# Altium footprint library Embedded.PcbLib: 8 footprints (part 1 of 3)
Each footprint in its own frame and in the unit in brackets; x right, y up, seen from the top. Pads: shape width x height; smd on the part's side, far side on the other; paste and mask are expansions set on the pad; w line width, h text height; cw(c..) or ccw(c..) is an arc to the next point about the centre after c.
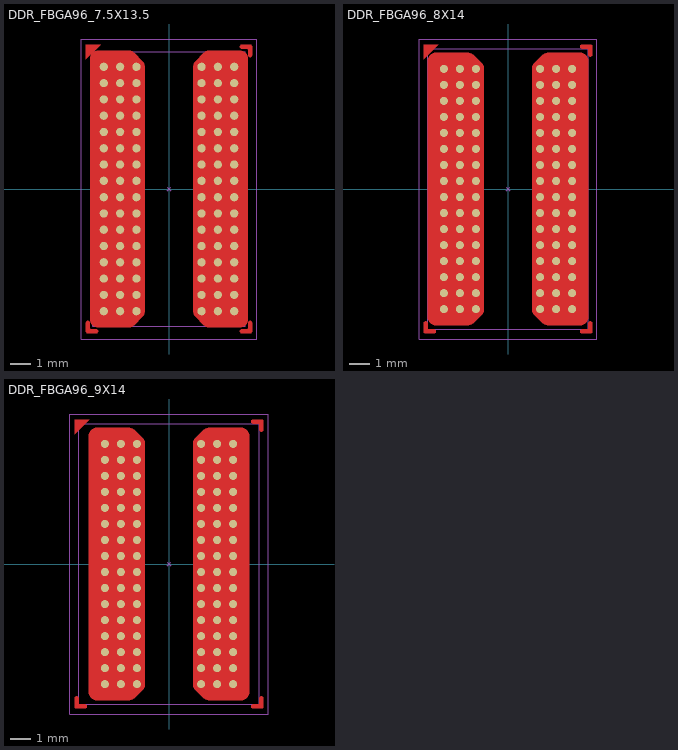
[diagram p0: the footprints below, top view; thin cyan lines are the x and y axes]

## DDR_FBGA96_7.5X13.5 [mil] "DDR_7.5X13.5"
height 43.31
pads (96):
  round 16 smd mask+1.5: A1(-125.98,236.22) A2(-94.49,236.22) A3(-62.99,236.22) A7(62.99,236.22) A8(94.49,236.22) A9(125.98,236.22) B1(-125.98,204.72) B2(-94.49,204.72) B3(-62.99,204.72) B7(62.99,204.72) B8(94.49,204.72) B9(125.98,204.72) C1(-125.98,173.23) C2(-94.49,173.23) C3(-62.99,173.23) C7(62.99,173.23) C8(94.49,173.23) C9(125.98,173.23) D1(-125.98,141.73) D2(-94.49,141.73) D3(-62.99,141.73) D7(62.99,141.73) D8(94.49,141.73) D9(125.98,141.73) E1(-125.98,110.24) E2(-94.49,110.24) E3(-62.99,110.24) E7(62.99,110.24) E8(94.49,110.24) E9(125.98,110.24) F1(-125.98,78.74) F2(-94.49,78.74) F3(-62.99,78.74) F7(62.99,78.74) F8(94.49,78.74) F9(125.98,78.74) G1(-125.98,47.24) G2(-94.49,47.24) G3(-62.99,47.24) G7(62.99,47.24) G8(94.49,47.24) G9(125.98,47.24) H1(-125.98,15.75) H2(-94.49,15.75) H3(-62.99,15.75) H7(62.99,15.75) H8(94.49,15.75) H9(125.98,15.75) J1(-125.98,-15.75) J2(-94.49,-15.75) J3(-62.99,-15.75) J7(62.99,-15.75) J8(94.49,-15.75) J9(125.98,-15.75) K1(-125.98,-47.24) K2(-94.49,-47.24) K3(-62.99,-47.24) K7(62.99,-47.24) K8(94.49,-47.24) K9(125.98,-47.24) L1(-125.98,-78.74) L2(-94.49,-78.74) L3(-62.99,-78.74) L7(62.99,-78.74) L8(94.49,-78.74) L9(125.98,-78.74) M1(-125.98,-110.24) M2(-94.49,-110.24) M3(-62.99,-110.24) M7(62.99,-110.24) M8(94.49,-110.24) M9(125.98,-110.24) N1(-125.98,-141.73) N2(-94.49,-141.73) N3(-62.99,-141.73) N7(62.99,-141.73) N8(94.49,-141.73) N9(125.98,-141.73) P1(-125.98,-173.23) P2(-94.49,-173.23) P3(-62.99,-173.23) P7(62.99,-173.23) P8(94.49,-173.23) P9(125.98,-173.23) R1(-125.98,-204.72) R2(-94.49,-204.72) R3(-62.99,-204.72) R7(62.99,-204.72) R8(94.49,-204.72) R9(125.98,-204.72) T1(-125.98,-236.22) T2(-94.49,-236.22) T3(-62.99,-236.22) T7(62.99,-236.22) T8(94.49,-236.22) T9(125.98,-236.22)
Top Layer:
  region: -160.94,279.06 -160.94,250.51 -132.4,279.06
  region: -152.94,-259.06 -152.94,-258.26 -153.55,-256.79 -154.68,-255.66 -156.15,-255.06 -156.94,-255.06 -157.74,-255.06 -159.21,-255.66 -160.34,-256.79 -160.94,-258.26 -160.94,-259.06 -160.94,-275.06 -160.94,-275.85 -160.34,-277.32 -159.21,-278.45 -157.74,-279.06 -156.94,-279.06 -140.94,-279.06 -140.15,-279.06 -138.68,-278.45 -137.55,-277.32 -136.94,-275.85 -136.94,-275.06 -136.94,-274.26 -137.55,-272.79 -138.68,-271.66 -140.15,-271.06 -140.94,-271.06 -150.94,-271.06 -151.34,-271.02 -152.06,-270.72 -152.61,-270.17 -152.91,-269.45 -152.94,-269.06
  region: 140.94,-271.06 140.15,-271.06 138.68,-271.66 137.55,-272.79 136.94,-274.26 136.94,-275.06 136.94,-275.85 137.55,-277.32 138.68,-278.45 140.15,-279.06 140.94,-279.06 156.94,-279.06 157.74,-279.06 159.21,-278.45 160.34,-277.32 160.94,-275.85 160.94,-275.06 160.94,-259.06 160.94,-258.26 160.34,-256.79 159.21,-255.66 157.74,-255.06 156.94,-255.06 156.15,-255.06 154.68,-255.66 153.55,-256.79 152.94,-258.26 152.94,-259.06 152.94,-269.06 152.91,-269.45 152.61,-270.17 152.06,-270.72 151.34,-271.02 150.94,-271.06
  region: 152.94,259.06 152.94,258.26 153.55,256.79 154.68,255.66 156.15,255.06 156.94,255.06 157.74,255.06 159.21,255.66 160.34,256.79 160.94,258.26 160.94,259.06 160.94,275.06 160.94,275.85 160.34,277.32 159.21,278.45 157.74,279.06 156.94,279.06 140.94,279.06 140.15,279.06 138.68,278.45 137.55,277.32 136.94,275.85 136.94,275.06 136.94,274.26 137.55,272.79 138.68,271.66 140.15,271.06 140.94,271.06 150.94,271.06 151.34,271.02 152.06,270.72 152.61,270.17 152.91,269.45 152.94,269.06
  pour cut-out: -78.74,267.72 -136.73,267.72 -139.86,267.72 -145.65,265.32 -150.08,260.89 -152.48,255.1 -152.48,251.97 -152.48,-251.97 -152.48,-255.1 -150.08,-260.89 -145.65,-265.32 -139.86,-267.72 -136.73,-267.72 -78.74,-267.72 -77.19,-267.72 -74.15,-267.11 -71.28,-265.92 -68.7,-264.2 -67.6,-263.1 -51.86,-247.36 -50.76,-246.26 -49.04,-243.68 -47.85,-240.81 -47.24,-237.77 -47.24,-236.22 -47.24,236.22 -47.24,237.77 -47.85,240.81 -49.04,243.68 -50.76,246.26 -51.86,247.36 -67.6,263.1 -68.7,264.2 -71.28,265.92 -74.15,267.11 -77.19,267.72
  pour cut-out: 78.74,-267.72 136.73,-267.72 139.86,-267.72 145.65,-265.32 150.08,-260.89 152.48,-255.1 152.48,-251.97 152.48,251.97 152.48,255.1 150.08,260.89 145.65,265.32 139.86,267.72 136.73,267.72 78.74,267.72 77.19,267.72 74.15,267.11 71.28,265.92 68.7,264.2 67.6,263.1 51.86,247.36 50.76,246.26 49.04,243.68 47.85,240.81 47.24,237.77 47.24,236.22 47.24,-236.22 47.24,-237.77 47.85,-240.81 49.04,-243.68 50.76,-246.26 51.86,-247.36 67.6,-263.1 68.7,-264.2 71.28,-265.92 74.15,-267.11 77.19,-267.72
Top Designator:
  text ".Designator" at 12.5,-127.64 h35
Top Component Center:
  lines w1: -3,-3 0,0 ; -3,3 0,0 ; 3,-3 0,0 ; 3,3 0,0
Top Courtyard:
  lines w1: -170,-290 -170,290 170,290 170,-290 -170,-290
Top Component Outline:
  lines w1: -147.64,-265.75 -147.64,265.75 147.64,265.75 147.64,-265.75 -147.64,-265.75
3D body: height 43.4, standoff 43, extent -135.9,235.94 -115.98,255.9
3D body: height 43.31, standoff 11.81, extent -147.64,-265.75 147.64,265.75
3D body: height 16.84, standoff -2.84, extent 116.18,-151.63 135.78,-132.04
3D body: height 16.84, standoff -2.84, extent 116.18,-183.12 135.78,-163.54
3D body: height 16.84, standoff -2.84, extent 116.18,-214.62 135.78,-195.03
3D body: height 16.84, standoff -2.84, extent 116.18,-246.11 135.78,-226.53
3D body: height 16.84, standoff -2.84, extent 116.18,-25.64 135.78,-6.06
3D body: height 16.84, standoff -2.84, extent 116.18,-57.14 135.78,-37.55
3D body: height 16.84, standoff -2.84, extent 116.18,-88.63 135.78,-69.05
3D body: height 16.84, standoff -2.84, extent 116.18,-120.13 135.78,-100.55
3D body: height 16.84, standoff -2.84, extent 116.18,100.34 135.78,119.93
3D body: height 16.84, standoff -2.84, extent 116.18,68.85 135.78,88.43
3D body: height 16.84, standoff -2.84, extent 116.18,37.35 135.78,56.94
3D body: height 16.84, standoff -2.84, extent 116.18,5.86 135.78,25.44
3D body: height 16.84, standoff -2.84, extent 116.18,131.84 135.78,151.42
3D body: height 16.84, standoff -2.84, extent 116.18,163.34 135.78,182.92
3D body: height 16.84, standoff -2.84, extent 116.18,194.83 135.78,214.42
3D body: height 16.84, standoff -2.84, extent 116.18,226.33 135.78,245.91
3D body: height 16.84, standoff -2.84, extent 84.68,-151.63 104.29,-132.04
3D body: height 16.84, standoff -2.84, extent 84.68,-183.12 104.29,-163.54
3D body: height 16.84, standoff -2.84, extent 84.68,-214.62 104.29,-195.03
3D body: height 16.84, standoff -2.84, extent 84.68,-246.11 104.29,-226.53
3D body: height 16.84, standoff -2.84, extent 84.68,-25.64 104.29,-6.06
3D body: height 16.84, standoff -2.84, extent 84.68,-57.14 104.29,-37.55
3D body: height 16.84, standoff -2.84, extent 84.68,-88.63 104.29,-69.05
3D body: height 16.84, standoff -2.84, extent 84.68,-120.13 104.29,-100.55
3D body: height 16.84, standoff -2.84, extent 84.68,100.34 104.29,119.93
3D body: height 16.84, standoff -2.84, extent 84.68,68.85 104.29,88.43
3D body: height 16.84, standoff -2.84, extent 84.68,37.35 104.29,56.94
3D body: height 16.84, standoff -2.84, extent 84.68,5.86 104.29,25.44
3D body: height 16.84, standoff -2.84, extent 84.68,131.84 104.29,151.42
3D body: height 16.84, standoff -2.84, extent 84.68,163.34 104.29,182.92
3D body: height 16.84, standoff -2.84, extent 84.68,194.83 104.29,214.42
3D body: height 16.84, standoff -2.84, extent 84.68,226.33 104.29,245.91
3D body: height 16.84, standoff -2.84, extent 53.19,-151.63 72.79,-132.04
3D body: height 16.84, standoff -2.84, extent 53.19,-183.12 72.79,-163.54
3D body: height 16.84, standoff -2.84, extent 53.19,-214.62 72.79,-195.03
3D body: height 16.84, standoff -2.84, extent 53.19,-246.11 72.79,-226.53
3D body: height 16.84, standoff -2.84, extent 53.19,-25.64 72.79,-6.06
3D body: height 16.84, standoff -2.84, extent 53.19,-57.14 72.79,-37.55
3D body: height 16.84, standoff -2.84, extent 53.19,-88.63 72.79,-69.05
3D body: height 16.84, standoff -2.84, extent 53.19,-120.13 72.79,-100.55
3D body: height 16.84, standoff -2.84, extent 53.19,100.34 72.79,119.93
3D body: height 16.84, standoff -2.84, extent 53.19,68.85 72.79,88.43
3D body: height 16.84, standoff -2.84, extent 53.19,37.35 72.79,56.94
3D body: height 16.84, standoff -2.84, extent 53.19,5.86 72.79,25.44
3D body: height 16.84, standoff -2.84, extent 53.19,131.84 72.79,151.42
3D body: height 16.84, standoff -2.84, extent 53.19,163.34 72.79,182.92
3D body: height 16.84, standoff -2.84, extent 53.19,194.83 72.79,214.42
3D body: height 16.84, standoff -2.84, extent 53.19,226.33 72.79,245.91
3D body: height 16.84, standoff -2.84, extent -72.8,-151.63 -53.19,-132.04
3D body: height 16.84, standoff -2.84, extent -72.8,-183.12 -53.19,-163.54
3D body: height 16.84, standoff -2.84, extent -72.8,-214.62 -53.19,-195.03
3D body: height 16.84, standoff -2.84, extent -72.8,-246.11 -53.19,-226.53
3D body: height 16.84, standoff -2.84, extent -72.8,-25.64 -53.19,-6.06
3D body: height 16.84, standoff -2.84, extent -72.8,-57.14 -53.19,-37.55
3D body: height 16.84, standoff -2.84, extent -72.8,-88.63 -53.19,-69.05
3D body: height 16.84, standoff -2.84, extent -72.8,-120.13 -53.19,-100.55
3D body: height 16.84, standoff -2.84, extent -72.8,100.34 -53.19,119.93
3D body: height 16.84, standoff -2.84, extent -72.8,68.85 -53.19,88.43
3D body: height 16.84, standoff -2.84, extent -72.8,37.35 -53.19,56.94
3D body: height 16.84, standoff -2.84, extent -72.8,5.86 -53.19,25.44
3D body: height 16.84, standoff -2.84, extent -72.8,131.84 -53.19,151.42
3D body: height 16.84, standoff -2.84, extent -72.8,163.34 -53.19,182.92
3D body: height 16.84, standoff -2.84, extent -72.8,194.83 -53.19,214.42
3D body: height 16.84, standoff -2.84, extent -72.8,226.33 -53.19,245.91
3D body: height 16.84, standoff -2.84, extent -104.29,-151.63 -84.69,-132.04
3D body: height 16.84, standoff -2.84, extent -104.29,-183.12 -84.69,-163.54
3D body: height 16.84, standoff -2.84, extent -104.29,-214.62 -84.69,-195.03
3D body: height 16.84, standoff -2.84, extent -104.29,-246.11 -84.69,-226.53
3D body: height 16.84, standoff -2.84, extent -104.29,-25.64 -84.69,-6.06
3D body: height 16.84, standoff -2.84, extent -104.29,-57.14 -84.69,-37.55
3D body: height 16.84, standoff -2.84, extent -104.29,-88.63 -84.69,-69.05
3D body: height 16.84, standoff -2.84, extent -104.29,-120.13 -84.69,-100.55
3D body: height 16.84, standoff -2.84, extent -104.29,100.34 -84.69,119.93
3D body: height 16.84, standoff -2.84, extent -104.29,68.85 -84.69,88.43
3D body: height 16.84, standoff -2.84, extent -104.29,37.35 -84.69,56.94
3D body: height 16.84, standoff -2.84, extent -104.29,5.86 -84.69,25.44
3D body: height 16.84, standoff -2.84, extent -104.29,131.84 -84.69,151.42
3D body: height 16.84, standoff -2.84, extent -104.29,163.34 -84.69,182.92
3D body: height 16.84, standoff -2.84, extent -104.29,194.83 -84.69,214.42
3D body: height 16.84, standoff -2.84, extent -104.29,226.33 -84.69,245.91
3D body: height 16.84, standoff -2.84, extent -135.79,-151.63 -116.19,-132.04
3D body: height 16.84, standoff -2.84, extent -135.79,-183.12 -116.19,-163.54
3D body: height 16.84, standoff -2.84, extent -135.79,-214.62 -116.19,-195.03
3D body: height 16.84, standoff -2.84, extent -135.79,-246.11 -116.19,-226.53
3D body: height 16.84, standoff -2.84, extent -135.79,-25.64 -116.19,-6.06
3D body: height 16.84, standoff -2.84, extent -135.79,-57.14 -116.19,-37.55
3D body: height 16.84, standoff -2.84, extent -135.79,-88.63 -116.19,-69.05
3D body: height 16.84, standoff -2.84, extent -135.79,-120.13 -116.19,-100.55
3D body: height 16.84, standoff -2.84, extent -135.79,100.34 -116.19,119.93
3D body: height 16.84, standoff -2.84, extent -135.79,68.85 -116.19,88.43
3D body: height 16.84, standoff -2.84, extent -135.79,37.35 -116.19,56.94
3D body: height 16.84, standoff -2.84, extent -135.79,5.86 -116.19,25.44
3D body: height 16.84, standoff -2.84, extent -135.79,131.84 -116.19,151.42
3D body: height 16.84, standoff -2.84, extent -135.79,163.34 -116.19,182.92
3D body: height 16.84, standoff -2.84, extent -135.79,194.83 -116.19,214.42
3D body: height 16.84, standoff -2.84, extent -135.79,226.33 -116.19,245.91

## DDR_FBGA96_8X14 [mil] "DDR_8X14"
height 43.31
pads (96):
  round 16 smd mask+2: A1(-125.98,236.22) A2(-94.49,236.22) A3(-62.99,236.22) A7(62.99,236.22) A8(94.49,236.22) A9(125.98,236.22) B1(-125.98,204.72) B2(-94.49,204.72) B3(-62.99,204.72) B7(62.99,204.72) B8(94.49,204.72) B9(125.98,204.72) C1(-125.98,173.23) C2(-94.49,173.23) C3(-62.99,173.23) C7(62.99,173.23) C8(94.49,173.23) C9(125.98,173.23) D1(-125.98,141.73) D2(-94.49,141.73) D3(-62.99,141.73) D7(62.99,141.73) D8(94.49,141.73) D9(125.98,141.73) E1(-125.98,110.24) E2(-94.49,110.24) E3(-62.99,110.24) E7(62.99,110.24) E8(94.49,110.24) E9(125.98,110.24) F1(-125.98,78.74) F2(-94.49,78.74) F3(-62.99,78.74) F7(62.99,78.74) F8(94.49,78.74) F9(125.98,78.74) G1(-125.98,47.24) G2(-94.49,47.24) G3(-62.99,47.24) G7(62.99,47.24) G8(94.49,47.24) G9(125.98,47.24) H1(-125.98,15.75) H2(-94.49,15.75) H3(-62.99,15.75) H7(62.99,15.75) H8(94.49,15.75) H9(125.98,15.75) J1(-125.98,-15.75) J2(-94.49,-15.75) J3(-62.99,-15.75) J7(62.99,-15.75) J8(94.49,-15.75) J9(125.98,-15.75) K1(-125.98,-47.24) K2(-94.49,-47.24) K3(-62.99,-47.24) K7(62.99,-47.24) K8(94.49,-47.24) K9(125.98,-47.24) L1(-125.98,-78.74) L2(-94.49,-78.74) L3(-62.99,-78.74) L7(62.99,-78.74) L8(94.49,-78.74) L9(125.98,-78.74) M1(-125.98,-110.24) M2(-94.49,-110.24) M3(-62.99,-110.24) M7(62.99,-110.24) M8(94.49,-110.24) M9(125.98,-110.24) N1(-125.98,-141.73) N2(-94.49,-141.73) N3(-62.99,-141.73) N7(62.99,-141.73) N8(94.49,-141.73) N9(125.98,-141.73) P1(-125.98,-173.23) P2(-94.49,-173.23) P3(-62.99,-173.23) P7(62.99,-173.23) P8(94.49,-173.23) P9(125.98,-173.23) R1(-125.98,-204.72) R2(-94.49,-204.72) R3(-62.99,-204.72) R7(62.99,-204.72) R8(94.49,-204.72) R9(125.98,-204.72) T1(-125.98,-236.22) T2(-94.49,-236.22) T3(-62.99,-236.22) T7(62.99,-236.22) T8(94.49,-236.22) T9(125.98,-236.22)
Top Layer:
  region: -165.94,284.06 -165.94,255.51 -137.4,284.06
  region: -157.94,-264.06 -157.94,-263.26 -158.55,-261.79 -159.68,-260.66 -161.15,-260.06 -161.94,-260.06 -162.74,-260.06 -164.21,-260.66 -165.34,-261.79 -165.94,-263.26 -165.94,-264.06 -165.94,-280.06 -165.94,-280.85 -165.34,-282.32 -164.21,-283.45 -162.74,-284.06 -161.94,-284.06 -145.94,-284.06 -145.15,-284.06 -143.68,-283.45 -142.55,-282.32 -141.94,-280.85 -141.94,-280.06 -141.94,-279.26 -142.55,-277.79 -143.68,-276.66 -145.15,-276.06 -145.94,-276.06 -155.94,-276.06 -156.34,-276.02 -157.06,-275.72 -157.61,-275.17 -157.91,-274.45 -157.94,-274.06
  region: 145.94,-276.06 145.15,-276.06 143.68,-276.66 142.55,-277.79 141.94,-279.26 141.94,-280.06 141.94,-280.85 142.55,-282.32 143.68,-283.45 145.15,-284.06 145.94,-284.06 161.94,-284.06 162.74,-284.06 164.21,-283.45 165.34,-282.32 165.94,-280.85 165.94,-280.06 165.94,-264.06 165.94,-263.26 165.34,-261.79 164.21,-260.66 162.74,-260.06 161.94,-260.06 161.15,-260.06 159.68,-260.66 158.55,-261.79 157.94,-263.26 157.94,-264.06 157.94,-274.06 157.91,-274.45 157.61,-275.17 157.06,-275.72 156.34,-276.02 155.94,-276.06
  region: 157.94,264.06 157.94,263.26 158.55,261.79 159.68,260.66 161.15,260.06 161.94,260.06 162.74,260.06 164.21,260.66 165.34,261.79 165.94,263.26 165.94,264.06 165.94,280.06 165.94,280.85 165.34,282.32 164.21,283.45 162.74,284.06 161.94,284.06 145.94,284.06 145.15,284.06 143.68,283.45 142.55,282.32 141.94,280.85 141.94,280.06 141.94,279.26 142.55,277.79 143.68,276.66 145.15,276.06 145.94,276.06 155.94,276.06 156.34,276.02 157.06,275.72 157.61,275.17 157.91,274.45 157.94,274.06
  pour cut-out: -141.73,267.72 -144.86,267.72 -150.65,265.32 -155.08,260.89 -157.48,255.1 -157.48,251.97 -157.48,-251.97 -157.48,-255.1 -155.08,-260.89 -150.65,-265.32 -144.86,-267.72 -141.73,-267.72 -78.74,-267.72 -77.19,-267.72 -74.15,-267.11 -71.28,-265.92 -68.7,-264.2 -67.6,-263.1 -51.86,-247.36 -50.76,-246.26 -49.04,-243.68 -47.85,-240.81 -47.24,-237.77 -47.24,-236.22 -47.24,236.22 -47.24,237.77 -47.85,240.81 -49.04,243.68 -50.76,246.26 -51.86,247.36 -67.6,263.1 -68.7,264.2 -71.28,265.92 -74.15,267.11 -77.19,267.72 -78.74,267.72
  pour cut-out: 141.73,-267.72 144.86,-267.72 150.65,-265.32 155.08,-260.89 157.48,-255.1 157.48,-251.97 157.48,251.97 157.48,255.1 155.08,260.89 150.65,265.32 144.86,267.72 141.73,267.72 78.74,267.72 77.19,267.72 74.15,267.11 71.28,265.92 68.7,264.2 67.6,263.1 51.86,247.36 50.76,246.26 49.04,243.68 47.85,240.81 47.24,237.77 47.24,236.22 47.24,-236.22 47.24,-237.77 47.85,-240.81 49.04,-243.68 50.76,-246.26 51.86,-247.36 67.6,-263.1 68.7,-264.2 71.28,-265.92 74.15,-267.11 77.19,-267.72 78.74,-267.72
Top Designator:
  text ".Designator" at 12.5,-127.64 h35
Top Component Center:
  lines w1: -3,-3 0,0 ; -3,3 0,0 ; 3,-3 0,0 ; 3,3 0,0
Top Courtyard:
  lines w1: -175,-295 -175,295 175,295 175,-295 -175,-295
Top Component Outline:
  lines w1: -157.48,-275.59 157.48,-275.59 157.48,275.59 -157.48,275.59 -157.48,-275.59
3D body: height 43.4, standoff 43, extent -135.9,235.94 -115.98,255.9
3D body: height 43.31, standoff 11.81, extent -157.48,-275.59 157.48,275.59
3D body: height 16.84, standoff -2.84, extent 116.18,-151.63 135.78,-132.04
3D body: height 16.84, standoff -2.84, extent 116.18,-183.12 135.78,-163.54
3D body: height 16.84, standoff -2.84, extent 116.18,-214.62 135.78,-195.03
3D body: height 16.84, standoff -2.84, extent 116.18,-246.11 135.78,-226.53
3D body: height 16.84, standoff -2.84, extent 116.18,-25.64 135.78,-6.06
3D body: height 16.84, standoff -2.84, extent 116.18,-57.14 135.78,-37.55
3D body: height 16.84, standoff -2.84, extent 116.18,-88.63 135.78,-69.05
3D body: height 16.84, standoff -2.84, extent 116.18,-120.13 135.78,-100.55
3D body: height 16.84, standoff -2.84, extent 116.18,100.34 135.78,119.93
3D body: height 16.84, standoff -2.84, extent 116.18,68.85 135.78,88.43
3D body: height 16.84, standoff -2.84, extent 116.18,37.35 135.78,56.94
3D body: height 16.84, standoff -2.84, extent 116.18,5.86 135.78,25.44
3D body: height 16.84, standoff -2.84, extent 116.18,131.84 135.78,151.42
3D body: height 16.84, standoff -2.84, extent 116.18,163.34 135.78,182.92
3D body: height 16.84, standoff -2.84, extent 116.18,194.83 135.78,214.42
3D body: height 16.84, standoff -2.84, extent 116.18,226.33 135.78,245.91
3D body: height 16.84, standoff -2.84, extent 84.68,-151.63 104.29,-132.04
3D body: height 16.84, standoff -2.84, extent 84.68,-183.12 104.29,-163.54
3D body: height 16.84, standoff -2.84, extent 84.68,-214.62 104.29,-195.03
3D body: height 16.84, standoff -2.84, extent 84.68,-246.11 104.29,-226.53
3D body: height 16.84, standoff -2.84, extent 84.68,-25.64 104.29,-6.06
3D body: height 16.84, standoff -2.84, extent 84.68,-57.14 104.29,-37.55
3D body: height 16.84, standoff -2.84, extent 84.68,-88.63 104.29,-69.05
3D body: height 16.84, standoff -2.84, extent 84.68,-120.13 104.29,-100.55
3D body: height 16.84, standoff -2.84, extent 84.68,100.34 104.29,119.93
3D body: height 16.84, standoff -2.84, extent 84.68,68.85 104.29,88.43
3D body: height 16.84, standoff -2.84, extent 84.68,37.35 104.29,56.94
3D body: height 16.84, standoff -2.84, extent 84.68,5.86 104.29,25.44
3D body: height 16.84, standoff -2.84, extent 84.68,131.84 104.29,151.42
3D body: height 16.84, standoff -2.84, extent 84.68,163.34 104.29,182.92
3D body: height 16.84, standoff -2.84, extent 84.68,194.83 104.29,214.42
3D body: height 16.84, standoff -2.84, extent 84.68,226.33 104.29,245.91
3D body: height 16.84, standoff -2.84, extent 53.19,-151.63 72.79,-132.04
3D body: height 16.84, standoff -2.84, extent 53.19,-183.12 72.79,-163.54
3D body: height 16.84, standoff -2.84, extent 53.19,-214.62 72.79,-195.03
3D body: height 16.84, standoff -2.84, extent 53.19,-246.11 72.79,-226.53
3D body: height 16.84, standoff -2.84, extent 53.19,-25.64 72.79,-6.06
3D body: height 16.84, standoff -2.84, extent 53.19,-57.14 72.79,-37.55
3D body: height 16.84, standoff -2.84, extent 53.19,-88.63 72.79,-69.05
3D body: height 16.84, standoff -2.84, extent 53.19,-120.13 72.79,-100.55
3D body: height 16.84, standoff -2.84, extent 53.19,100.34 72.79,119.93
3D body: height 16.84, standoff -2.84, extent 53.19,68.85 72.79,88.43
3D body: height 16.84, standoff -2.84, extent 53.19,37.35 72.79,56.94
3D body: height 16.84, standoff -2.84, extent 53.19,5.86 72.79,25.44
3D body: height 16.84, standoff -2.84, extent 53.19,131.84 72.79,151.42
3D body: height 16.84, standoff -2.84, extent 53.19,163.34 72.79,182.92
3D body: height 16.84, standoff -2.84, extent 53.19,194.83 72.79,214.42
3D body: height 16.84, standoff -2.84, extent 53.19,226.33 72.79,245.91
3D body: height 16.84, standoff -2.84, extent -72.8,-151.63 -53.19,-132.04
3D body: height 16.84, standoff -2.84, extent -72.8,-183.12 -53.19,-163.54
3D body: height 16.84, standoff -2.84, extent -72.8,-214.62 -53.19,-195.03
3D body: height 16.84, standoff -2.84, extent -72.8,-246.11 -53.19,-226.53
3D body: height 16.84, standoff -2.84, extent -72.8,-25.64 -53.19,-6.06
3D body: height 16.84, standoff -2.84, extent -72.8,-57.14 -53.19,-37.55
3D body: height 16.84, standoff -2.84, extent -72.8,-88.63 -53.19,-69.05
3D body: height 16.84, standoff -2.84, extent -72.8,-120.13 -53.19,-100.55
3D body: height 16.84, standoff -2.84, extent -72.8,100.34 -53.19,119.93
3D body: height 16.84, standoff -2.84, extent -72.8,68.85 -53.19,88.43
3D body: height 16.84, standoff -2.84, extent -72.8,37.35 -53.19,56.94
3D body: height 16.84, standoff -2.84, extent -72.8,5.86 -53.19,25.44
3D body: height 16.84, standoff -2.84, extent -72.8,131.84 -53.19,151.42
3D body: height 16.84, standoff -2.84, extent -72.8,163.34 -53.19,182.92
3D body: height 16.84, standoff -2.84, extent -72.8,194.83 -53.19,214.42
3D body: height 16.84, standoff -2.84, extent -72.8,226.33 -53.19,245.91
3D body: height 16.84, standoff -2.84, extent -104.29,-151.63 -84.69,-132.04
3D body: height 16.84, standoff -2.84, extent -104.29,-183.12 -84.69,-163.54
3D body: height 16.84, standoff -2.84, extent -104.29,-214.62 -84.69,-195.03
3D body: height 16.84, standoff -2.84, extent -104.29,-246.11 -84.69,-226.53
3D body: height 16.84, standoff -2.84, extent -104.29,-25.64 -84.69,-6.06
3D body: height 16.84, standoff -2.84, extent -104.29,-57.14 -84.69,-37.55
3D body: height 16.84, standoff -2.84, extent -104.29,-88.63 -84.69,-69.05
3D body: height 16.84, standoff -2.84, extent -104.29,-120.13 -84.69,-100.55
3D body: height 16.84, standoff -2.84, extent -104.29,100.34 -84.69,119.93
3D body: height 16.84, standoff -2.84, extent -104.29,68.85 -84.69,88.43
3D body: height 16.84, standoff -2.84, extent -104.29,37.35 -84.69,56.94
3D body: height 16.84, standoff -2.84, extent -104.29,5.86 -84.69,25.44
3D body: height 16.84, standoff -2.84, extent -104.29,131.84 -84.69,151.42
3D body: height 16.84, standoff -2.84, extent -104.29,163.34 -84.69,182.92
3D body: height 16.84, standoff -2.84, extent -104.29,194.83 -84.69,214.42
3D body: height 16.84, standoff -2.84, extent -104.29,226.33 -84.69,245.91
3D body: height 16.84, standoff -2.84, extent -135.79,-151.63 -116.19,-132.04
3D body: height 16.84, standoff -2.84, extent -135.79,-183.12 -116.19,-163.54
3D body: height 16.84, standoff -2.84, extent -135.79,-214.62 -116.19,-195.03
3D body: height 16.84, standoff -2.84, extent -135.79,-246.11 -116.19,-226.53
3D body: height 16.84, standoff -2.84, extent -135.79,-25.64 -116.19,-6.06
3D body: height 16.84, standoff -2.84, extent -135.79,-57.14 -116.19,-37.55
3D body: height 16.84, standoff -2.84, extent -135.79,-88.63 -116.19,-69.05
3D body: height 16.84, standoff -2.84, extent -135.79,-120.13 -116.19,-100.55
3D body: height 16.84, standoff -2.84, extent -135.79,100.34 -116.19,119.93
3D body: height 16.84, standoff -2.84, extent -135.79,68.85 -116.19,88.43
3D body: height 16.84, standoff -2.84, extent -135.79,37.35 -116.19,56.94
3D body: height 16.84, standoff -2.84, extent -135.79,5.86 -116.19,25.44
3D body: height 16.84, standoff -2.84, extent -135.79,131.84 -116.19,151.42
3D body: height 16.84, standoff -2.84, extent -135.79,163.34 -116.19,182.92
3D body: height 16.84, standoff -2.84, extent -135.79,194.83 -116.19,214.42
3D body: height 16.84, standoff -2.84, extent -135.79,226.33 -116.19,245.91

## DDR_FBGA96_9X14 [mil] "DDR3L X16 9X14MM"
pads (96):
  round 16 smd mask+2: A1(-125.98,236.22) A2(-94.49,236.22) A3(-62.99,236.22) A7(62.99,236.22) A8(94.49,236.22) A9(125.98,236.22) B1(-125.98,204.72) B2(-94.49,204.72) B3(-62.99,204.72) B7(62.99,204.72) B8(94.49,204.72) B9(125.98,204.72) C1(-125.98,173.23) C2(-94.49,173.23) C3(-62.99,173.23) C7(62.99,173.23) C8(94.49,173.23) C9(125.98,173.23) D1(-125.98,141.73) D2(-94.49,141.73) D3(-62.99,141.73) D7(62.99,141.73) D8(94.49,141.73) D9(125.98,141.73) E1(-125.98,110.24) E2(-94.49,110.24) E3(-62.99,110.24) E7(62.99,110.24) E8(94.49,110.24) E9(125.98,110.24) F1(-125.98,78.74) F2(-94.49,78.74) F3(-62.99,78.74) F7(62.99,78.74) F8(94.49,78.74) F9(125.98,78.74) G1(-125.98,47.24) G2(-94.49,47.24) G3(-62.99,47.24) G7(62.99,47.24) G8(94.49,47.24) G9(125.98,47.24) H1(-125.98,15.75) H2(-94.49,15.75) H3(-62.99,15.75) H7(62.99,15.75) H8(94.49,15.75) H9(125.98,15.75) J1(-125.98,-15.75) J2(-94.49,-15.75) J3(-62.99,-15.75) J7(62.99,-15.75) J8(94.49,-15.75) J9(125.98,-15.75) K1(-125.98,-47.24) K2(-94.49,-47.24) K3(-62.99,-47.24) K7(62.99,-47.24) K8(94.49,-47.24) K9(125.98,-47.24) L1(-125.98,-78.74) L2(-94.49,-78.74) L3(-62.99,-78.74) L7(62.99,-78.74) L8(94.49,-78.74) L9(125.98,-78.74) M1(-125.98,-110.24) M2(-94.49,-110.24) M3(-62.99,-110.24) M7(62.99,-110.24) M8(94.49,-110.24) M9(125.98,-110.24) N1(-125.98,-141.73) N2(-94.49,-141.73) N3(-62.99,-141.73) N7(62.99,-141.73) N8(94.49,-141.73) N9(125.98,-141.73) P1(-125.98,-173.23) P2(-94.49,-173.23) P3(-62.99,-173.23) P7(62.99,-173.23) P8(94.49,-173.23) P9(125.98,-173.23) R1(-125.98,-204.72) R2(-94.49,-204.72) R3(-62.99,-204.72) R7(62.99,-204.72) R8(94.49,-204.72) R9(125.98,-204.72) T1(-125.98,-236.22) T2(-94.49,-236.22) T3(-62.99,-236.22) T7(62.99,-236.22) T8(94.49,-236.22) T9(125.98,-236.22)
Top Layer:
  region: -177.63,-264.06 -177.63,-263.26 -178.24,-261.79 -179.36,-260.66 -180.83,-260.06 -181.63,-260.06 -182.43,-260.06 -183.9,-260.66 -185.02,-261.79 -185.63,-263.26 -185.63,-264.06 -185.63,-280.06 -185.63,-280.85 -185.02,-282.32 -183.9,-283.45 -182.43,-284.06 -181.63,-284.06 -165.63,-284.06 -164.83,-284.06 -163.36,-283.45 -162.24,-282.32 -161.63,-280.85 -161.63,-280.06 -161.63,-279.26 -162.24,-277.79 -163.36,-276.66 -164.83,-276.06 -165.63,-276.06 -175.63,-276.06 -176.02,-276.02 -176.74,-275.72 -177.29,-275.17 -177.59,-274.45 -177.63,-274.06
  region: 165.63,-276.06 164.83,-276.06 163.36,-276.66 162.24,-277.79 161.63,-279.26 161.63,-280.06 161.63,-280.85 162.24,-282.32 163.36,-283.45 164.83,-284.06 165.63,-284.06 181.63,-284.06 182.43,-284.06 183.9,-283.45 185.02,-282.32 185.63,-280.85 185.63,-280.06 185.63,-264.06 185.63,-263.26 185.02,-261.79 183.9,-260.66 182.43,-260.06 181.63,-260.06 180.83,-260.06 179.36,-260.66 178.24,-261.79 177.63,-263.26 177.63,-264.06 177.63,-274.06 177.59,-274.45 177.29,-275.17 176.74,-275.72 176.02,-276.02 175.63,-276.06
  region: 177.63,264.06 177.63,263.26 178.24,261.79 179.36,260.66 180.83,260.06 181.63,260.06 182.43,260.06 183.9,260.66 185.02,261.79 185.63,263.26 185.63,264.06 185.63,280.06 185.63,280.85 185.02,282.32 183.9,283.45 182.43,284.06 181.63,284.06 165.63,284.06 164.83,284.06 163.36,283.45 162.24,282.32 161.63,280.85 161.63,280.06 161.63,279.26 162.24,277.79 163.36,276.66 164.83,276.06 165.63,276.06 175.63,276.06 176.02,276.02 176.74,275.72 177.29,275.17 177.59,274.45 177.63,274.06
  region: -185.63,284.06 -185.63,255.51 -157.09,284.06
  pour cut-out: 141.73,-267.72 144.86,-267.72 150.65,-265.32 155.08,-260.89 157.48,-255.1 157.48,-251.97 157.48,251.97 157.48,255.1 155.08,260.89 150.65,265.32 144.86,267.72 141.73,267.72 78.74,267.72 77.19,267.72 74.15,267.11 71.28,265.92 68.7,264.2 67.6,263.1 51.86,247.36 50.76,246.26 49.04,243.68 47.85,240.81 47.24,237.77 47.24,236.22 47.24,-236.22 47.24,-237.77 47.85,-240.81 49.04,-243.68 50.76,-246.26 51.86,-247.36 67.6,-263.1 68.7,-264.2 71.28,-265.92 74.15,-267.11 77.19,-267.72 78.74,-267.72
  pour cut-out: -141.73,267.72 -144.86,267.72 -150.65,265.32 -155.08,260.89 -157.48,255.1 -157.48,251.97 -157.48,-251.97 -157.48,-255.1 -155.08,-260.89 -150.65,-265.32 -144.86,-267.72 -141.73,-267.72 -78.74,-267.72 -77.19,-267.72 -74.15,-267.11 -71.28,-265.92 -68.7,-264.2 -67.6,-263.1 -51.86,-247.36 -50.76,-246.26 -49.04,-243.68 -47.85,-240.81 -47.24,-237.77 -47.24,-236.22 -47.24,236.22 -47.24,237.77 -47.85,240.81 -49.04,243.68 -50.76,246.26 -51.86,247.36 -67.6,263.1 -68.7,264.2 -71.28,265.92 -74.15,267.11 -77.19,267.72 -78.74,267.72
Top Designator:
  text ".Designator" at 12.5,-127.64 h35
Top Component Center:
  lines w1: -3,-3 0,0 ; -3,3 0,0 ; 3,-3 0,0 ; 3,3 0,0
Top Courtyard:
  lines w1: -195,-295 -195,295 195,295 195,-295 -195,-295
Top Component Outline:
  lines w1: -177.17,-275.59 -177.17,275.59 177.17,275.59 177.17,-275.59 -177.17,-275.59
3D body: height 16.84, standoff -2.84, extent -135.79,226.33 -116.19,245.91
3D body: height 16.84, standoff -2.84, extent -135.79,194.83 -116.19,214.42
3D body: height 16.84, standoff -2.84, extent -135.79,163.34 -116.19,182.92
3D body: height 16.84, standoff -2.84, extent -135.79,131.84 -116.19,151.42
3D body: height 16.84, standoff -2.84, extent -135.79,5.86 -116.19,25.44
3D body: height 16.84, standoff -2.84, extent -135.79,37.35 -116.19,56.94
3D body: height 16.84, standoff -2.84, extent -135.79,68.85 -116.19,88.43
3D body: height 16.84, standoff -2.84, extent -135.79,100.34 -116.19,119.93
3D body: height 16.84, standoff -2.84, extent -135.79,-120.13 -116.19,-100.55
3D body: height 16.84, standoff -2.84, extent -135.79,-88.63 -116.19,-69.05
3D body: height 16.84, standoff -2.84, extent -135.79,-57.14 -116.19,-37.55
3D body: height 16.84, standoff -2.84, extent -135.79,-25.64 -116.19,-6.06
3D body: height 16.84, standoff -2.84, extent -135.79,-246.11 -116.19,-226.53
3D body: height 16.84, standoff -2.84, extent -135.79,-214.62 -116.19,-195.03
3D body: height 16.84, standoff -2.84, extent -135.79,-183.12 -116.19,-163.54
3D body: height 16.84, standoff -2.84, extent -135.79,-151.63 -116.19,-132.04
3D body: height 16.84, standoff -2.84, extent -104.29,226.33 -84.69,245.91
3D body: height 16.84, standoff -2.84, extent -104.29,194.83 -84.69,214.42
3D body: height 16.84, standoff -2.84, extent -104.29,163.34 -84.69,182.92
3D body: height 16.84, standoff -2.84, extent -104.29,131.84 -84.69,151.42
3D body: height 16.84, standoff -2.84, extent -104.29,5.86 -84.69,25.44
3D body: height 16.84, standoff -2.84, extent -104.29,37.35 -84.69,56.94
3D body: height 16.84, standoff -2.84, extent -104.29,68.85 -84.69,88.43
3D body: height 16.84, standoff -2.84, extent -104.29,100.34 -84.69,119.93
3D body: height 16.84, standoff -2.84, extent -104.29,-120.13 -84.69,-100.55
3D body: height 16.84, standoff -2.84, extent -104.29,-88.63 -84.69,-69.05
3D body: height 16.84, standoff -2.84, extent -104.29,-57.14 -84.69,-37.55
3D body: height 16.84, standoff -2.84, extent -104.29,-25.64 -84.69,-6.06
3D body: height 16.84, standoff -2.84, extent -104.29,-246.11 -84.69,-226.53
3D body: height 16.84, standoff -2.84, extent -104.29,-214.62 -84.69,-195.03
3D body: height 16.84, standoff -2.84, extent -104.29,-183.12 -84.69,-163.54
3D body: height 16.84, standoff -2.84, extent -104.29,-151.63 -84.69,-132.04
3D body: height 16.84, standoff -2.84, extent -72.8,226.33 -53.19,245.91
3D body: height 16.84, standoff -2.84, extent -72.8,194.83 -53.19,214.42
3D body: height 16.84, standoff -2.84, extent -72.8,163.34 -53.19,182.92
3D body: height 16.84, standoff -2.84, extent -72.8,131.84 -53.19,151.42
3D body: height 16.84, standoff -2.84, extent -72.8,5.86 -53.19,25.44
3D body: height 16.84, standoff -2.84, extent -72.8,37.35 -53.19,56.94
3D body: height 16.84, standoff -2.84, extent -72.8,68.85 -53.19,88.43
3D body: height 16.84, standoff -2.84, extent -72.8,100.34 -53.19,119.93
3D body: height 16.84, standoff -2.84, extent -72.8,-120.13 -53.19,-100.55
3D body: height 16.84, standoff -2.84, extent -72.8,-88.63 -53.19,-69.05
3D body: height 16.84, standoff -2.84, extent -72.8,-57.14 -53.19,-37.55
3D body: height 16.84, standoff -2.84, extent -72.8,-25.64 -53.19,-6.06
3D body: height 16.84, standoff -2.84, extent -72.8,-246.11 -53.19,-226.53
3D body: height 16.84, standoff -2.84, extent -72.8,-214.62 -53.19,-195.03
3D body: height 16.84, standoff -2.84, extent -72.8,-183.12 -53.19,-163.54
3D body: height 16.84, standoff -2.84, extent -72.8,-151.63 -53.19,-132.04
3D body: height 16.84, standoff -2.84, extent 53.19,226.33 72.79,245.91
3D body: height 16.84, standoff -2.84, extent 53.19,194.83 72.79,214.42
3D body: height 16.84, standoff -2.84, extent 53.19,163.34 72.79,182.92
3D body: height 16.84, standoff -2.84, extent 53.19,131.84 72.79,151.42
3D body: height 16.84, standoff -2.84, extent 53.19,5.86 72.79,25.44
3D body: height 16.84, standoff -2.84, extent 53.19,37.35 72.79,56.94
3D body: height 16.84, standoff -2.84, extent 53.19,68.85 72.79,88.43
3D body: height 16.84, standoff -2.84, extent 53.19,100.34 72.79,119.93
3D body: height 16.84, standoff -2.84, extent 53.19,-120.13 72.79,-100.55
3D body: height 16.84, standoff -2.84, extent 53.19,-88.63 72.79,-69.05
3D body: height 16.84, standoff -2.84, extent 53.19,-57.14 72.79,-37.55
3D body: height 16.84, standoff -2.84, extent 53.19,-25.64 72.79,-6.06
3D body: height 16.84, standoff -2.84, extent 53.19,-246.11 72.79,-226.53
3D body: height 16.84, standoff -2.84, extent 53.19,-214.62 72.79,-195.03
3D body: height 16.84, standoff -2.84, extent 53.19,-183.12 72.79,-163.54
3D body: height 16.84, standoff -2.84, extent 53.19,-151.63 72.79,-132.04
3D body: height 16.84, standoff -2.84, extent 84.68,226.33 104.29,245.91
3D body: height 16.84, standoff -2.84, extent 84.68,194.83 104.29,214.42
3D body: height 16.84, standoff -2.84, extent 84.68,163.34 104.29,182.92
3D body: height 16.84, standoff -2.84, extent 84.68,131.84 104.29,151.42
3D body: height 16.84, standoff -2.84, extent 84.68,5.86 104.29,25.44
3D body: height 16.84, standoff -2.84, extent 84.68,37.35 104.29,56.94
3D body: height 16.84, standoff -2.84, extent 84.68,68.85 104.29,88.43
3D body: height 16.84, standoff -2.84, extent 84.68,100.34 104.29,119.93
3D body: height 16.84, standoff -2.84, extent 84.68,-120.13 104.29,-100.55
3D body: height 16.84, standoff -2.84, extent 84.68,-88.63 104.29,-69.05
3D body: height 16.84, standoff -2.84, extent 84.68,-57.14 104.29,-37.55
3D body: height 16.84, standoff -2.84, extent 84.68,-25.64 104.29,-6.06
3D body: height 16.84, standoff -2.84, extent 84.68,-246.11 104.29,-226.53
3D body: height 16.84, standoff -2.84, extent 84.68,-214.62 104.29,-195.03
3D body: height 16.84, standoff -2.84, extent 84.68,-183.12 104.29,-163.54
3D body: height 16.84, standoff -2.84, extent 84.68,-151.63 104.29,-132.04
3D body: height 16.84, standoff -2.84, extent 116.18,226.33 135.78,245.91
3D body: height 16.84, standoff -2.84, extent 116.18,194.83 135.78,214.42
3D body: height 16.84, standoff -2.84, extent 116.18,163.34 135.78,182.92
3D body: height 16.84, standoff -2.84, extent 116.18,131.84 135.78,151.42
3D body: height 16.84, standoff -2.84, extent 116.18,5.86 135.78,25.44
3D body: height 16.84, standoff -2.84, extent 116.18,37.35 135.78,56.94
3D body: height 16.84, standoff -2.84, extent 116.18,68.85 135.78,88.43
3D body: height 16.84, standoff -2.84, extent 116.18,100.34 135.78,119.93
3D body: height 16.84, standoff -2.84, extent 116.18,-120.13 135.78,-100.55
3D body: height 16.84, standoff -2.84, extent 116.18,-88.63 135.78,-69.05
3D body: height 16.84, standoff -2.84, extent 116.18,-57.14 135.78,-37.55
3D body: height 16.84, standoff -2.84, extent 116.18,-25.64 135.78,-6.06
3D body: height 16.84, standoff -2.84, extent 116.18,-246.11 135.78,-226.53
3D body: height 16.84, standoff -2.84, extent 116.18,-214.62 135.78,-195.03
3D body: height 16.84, standoff -2.84, extent 116.18,-183.12 135.78,-163.54
3D body: height 16.84, standoff -2.84, extent 116.18,-151.63 135.78,-132.04
3D body: height 43.31, standoff 11.81, extent -177.17,-275.59 177.17,275.59
3D body: height 43.4, standoff 43, extent -155.59,235.94 -135.67,255.9